# Altium schematic symbol library Schlib1.SchLib: 1 symbol
Pins are listed as number, name and electrical type; pins without a type are passive.

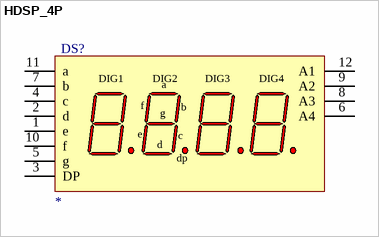
[diagram p0: symbol HDSP_4P]

## HDSP_4P
designator DS?
HDSP_4P
footprint HDSP_B4_数码管
footprint 数码管_30X14mm
pins: 1 e "Digits (1-4) e Anode", 2 d "Digits (1-4) d Anode", 3 DP "Digits (2,3) DP Anode", 4 c "Digits (1-4) c Anode", 5 g "Digits (1-4) g Anode", 6 A4 "Digit 4 Common Cathode", 7 b "Digits (1-4) b Anode", 8 A3 "Digit 3 Common Cathode", 9 A2 "Digit 2 Common Cathode", 10 f "Digits (1-4) f Anode", 11 a "Digits (1-4) a Anode", 12 A1 "Digit 1 Common Cathode"
text: DIG1; DIG2; DIG3; DIG4; dp